# Altium footprint library X.PcbLib: 77 footprints (part 3 of 5)
Each footprint in its own frame and in the unit in brackets; x right, y up, seen from the top. Pads: shape width x height; smd on the part's side, far side on the other; paste and mask are expansions set on the pad; w line width, h text height; cw(c..) or ccw(c..) is an arc to the next point about the centre after c.
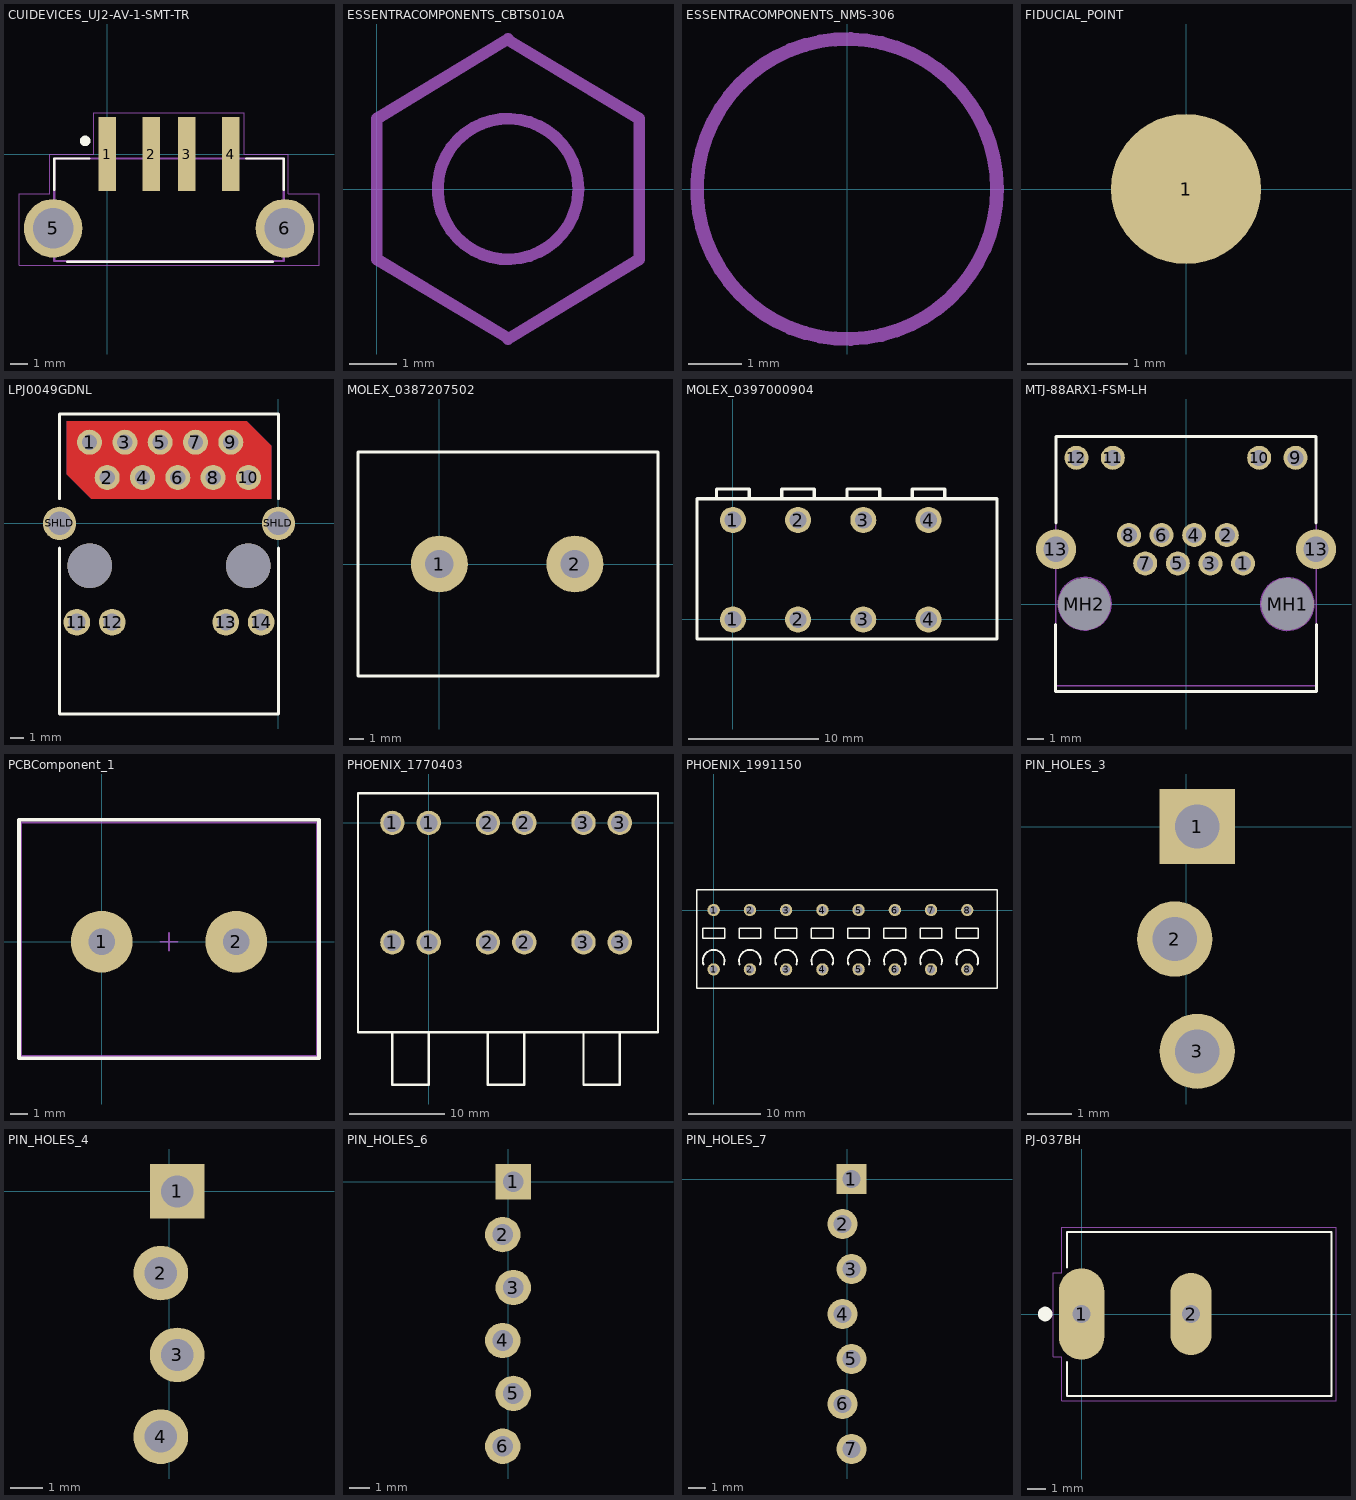
[diagram p2: the footprints below, top view; thin cyan lines are the x and y axes]

## CUIDEVICES_UJ2-AV-1-SMT-TR [mm] "CONN RCPT USB2.0 TYPEA 4POS SMD"
pads (6):
  rect 1x4.2 smd: 1(0,0) 2(2.5,0) 3(4.5,0) 4(7,0)
  round 3.316 hole 2.3: 5(-3.07,-4.2) 6(10.07,-4.2)
Top Overlay:
  circle w0.3: c-1.25,0.75 r0.15
  lines w0.127: -3,-2.032 -3,-0.25 -1.016,-0.25 ; -2.286,-6.096 9.398,-6.096 ; 7.874,-0.25 10,-0.25 10,-2.032
Body:
  circle w0.3: c0,0.75 r0.15
  lines w0.127: -3,-6.05 -3,-0.25 10,-0.25 10,-6.05 -3,-6.05
Mechanical 15:
  lines w0.05: -5,-6.3 -5,-2.25 -3.25,-2.25 -3.25,0 -0.75,0 -0.75,2.35 7.75,2.35 7.75,0 10.25,0 10.25,-2.25 12,-2.25 12,-6.3 -5,-6.3
3D body "CUI_DEVICES_UJ2-AV-1-SMT.step": height 15, standoff -1.93, extent -3.708,-6.845 10.692,1.054

## ESSENTRACOMPONENTS_CBTS010A [mm] "HEX STANDOFF M3 NYLON 5MM"
Body:
  circle w0.254: c2.8,0 r1.5
  lines w0.254: 2.8,-3.2 5.6,-1.5 5.6,0 5.6,1.5 2.8,3.176 ; 2.8,-3.176 0,-1.5 0,0 0,1.5 2.8,3.2
3D body: height 5, standoff 0, extent 0,-3.2 5.6,3.2
3D body: height 0.25, standoff -173.75, extent 0,1.5 0,1.5

## ESSENTRACOMPONENTS_NMS-306 [mm] "MACH SCREW PAN HEAD PHILLIPS M3"
height 2.5
Body:
  circle w0.254: c0,0 r2.8
3D body "NMS-306.stp": height 2.5, standoff -6.4, extent -2.85,-2.85 2.85,2.85

## FIDUCIAL_POINT [mm]
pads (1):
  round 1.5 all layers, no hole paste+3 mask+1: 1(0,0)
Multi-Layer:
  circle w0.254: c0,0 r1.5

## LPJ0049GDNL [mm]
height 13.3
pads (16):
  round 1.8 hole 1.1: 1(-13.59,5.842) 2(-12.32,3.302) 3(-11.05,5.842) 4(-9.78,3.302) 5(-8.51,5.842) 6(-7.24,3.302) 7(-5.97,5.842) 8(-4.7,3.302) 9(-3.43,5.842) 10(-2.16,3.302)
  round 1.92 hole 1.22: 11(-14.505,-7.108) 12(-11.965,-7.108) 13(-3.785,-7.108) 14(-1.245,-7.108)
  round 2.4 hole 1.7: SHLD(-15.75,0) SHLD(0,0)
via -2.16,-3.048 diameter 3.2 hole 3.2
via -13.59,-3.048 diameter 3.2 hole 3.2
Top Layer:
  pour cut-out: -15.24,7.366 -15.24,3.556 -13.462,1.778 -0.508,1.778 -0.508,5.588 -2.286,7.366
Bottom Layer:
  pour cut-out: -15.24,7.366 -15.24,3.556 -13.462,1.778 -0.508,1.778 -0.508,5.588 -2.286,7.366
Top Overlay:
  lines w0.2: -15.748,1.778 -15.75,5.143 -15.75,7.874 -4.954,7.874 0,7.874 0,1.778 ; -10.542,-13.716 -15.75,-13.716 ; 0,-8.319 0,-13.716 ; 0,-1.778 0,-13.716 ; -15.75,-13.716 0,-13.716 ; -15.75,-13.716 -15.748,-1.778 -15.75,-13.716
3D body: height 13, standoff 0, extent -15.75,-13.716 0,7.874

## MOLEX_0387207502 [mm] "CONN BARRIER STRIP 2CIRC 0.375\""
height 19.3
pads (2):
  round 4 hole 2 unplated: 1(0,0) 2(9.525,0)
Top Overlay:
  lines w0.2: -5.715,-7.874 15.367,-7.874 15.367,7.874 -5.715,7.874 -5.715,-7.874
3D body "387207502.stp": height 16.76, standoff -4.83, extent -5.715,-7.874 15.367,7.874

## MOLEX_0397000904 [mm] "TERM BLK 4POS TOP ENTRY 5MM PCB"
pads (8):
  round 2 hole 1.3: 1(0,0) 1(0,7.62) 2(5,0) 2(5,7.62) 3(10,0) 3(10,7.62) 4(15,0) 4(15,7.62)
Top Overlay:
  lines w0.254: -1.25,9.25 -1.25,10 1.25,10 1.25,9.25 ; 3.75,9.25 3.75,10 6.25,10 6.25,9.25 ; 8.75,9.25 8.75,10 11.25,10 11.25,9.25 ; 13.75,9.25 13.75,10 16.25,10 16.25,9.25 ; -2.75,-1.5 20.25,-1.5 20.25,9.25 -2.75,9.25 -2.75,-1.5
3D body: height 14, standoff 7, extent 13.75,8.5 16.25,10
3D body: height 14, standoff 7, extent 8.75,8.5 11.25,10
3D body: height 14, standoff 7, extent 3.75,8.5 6.25,10
3D body: height 14, standoff 7, extent -1.25,8.5 1.25,10
3D body: height 14, standoff 0, extent -2.5,-1.25 20,9

## MTJ-88ARX1-FSM-LH [mm]
pads (16):
  round 1.5 hole 1 mask+0.05: 1(3.57,2.54) 2(2.55,4.32) 3(1.53,2.54) 4(0.51,4.32) 5(-0.51,2.54) 6(-1.53,4.32) 7(-2.55,2.54) 8(-3.57,4.32) 9(6.85,9.15) 10(4.575,9.15) 11(-4.575,9.15) 12(-6.85,9.15)
  round 2.5 hole 1.57 mask+0.05: 13(-8.13,3.43) 13(8.13,3.43)
  round 3.25 hole 3.25 unplated mask+0.05: MH1(6.35,0) MH2(-6.35,0)
Top Overlay:
  lines w0.2: -8.155,-1.27 -8.155,-5.46 8.155,-5.46 8.155,-1.27 ; -8.13,5.08 -8.13,10.475 8.13,10.475 8.13,5.08
Body:
  circle w0.1: c-6.34,0.025 r1.652
  circle w0.1: c6.34,0 r1.652
Mechanical 15:
  lines w0.1: -8.155,-5.1 -8.155,10.475 8.155,10.475 8.155,-5.1 -8.155,-5.1
3D body "c-406549-1-r-3d.stp": height 14.8, standoff -3.92, extent -9.371,-6.223 9.272,10.498

## PCBComponent_1 [mm]
pads (2):
  round 3.5 hole 1.5: 1(0,0) 2(7.62,0)
Top Overlay:
  lines w0.2: -4.69,-6.6 12.31,-6.6 12.31,6.9 -4.69,6.9 -4.69,-6.6
Brd:
  lines w0.1: -4.56,-6.484 12.18,-6.484 12.18,6.75 -4.56,6.75 -4.56,-6.484
Mechanical 15:
  lines w0.1: 3.31,0 4.31,0 ; 3.81,-0.5 3.81,0.5 ; -4.69,-6.6 -4.69,6.9 12.31,6.9 12.31,-6.6 -4.69,-6.6
3D body "User Library-DG25C-1.STEP": height 14.8, standoff -4.79, extent -4.56,-6.484 12.18,6.75

## PHOENIX_1770403 [mm] "TERM BLK 3P SIDE ENTRY 10MM PCB"
pads (12):
  round 2.55 hole 1.85: 1(-3.8,-12.5) 1(-3.8,0) 1(0,-12.5) 1(0,0) 2(6.2,-12.5) 2(6.2,0) 2(10,-12.5) 2(10,0) 3(16.2,-12.5) 3(16.2,0) 3(20,-12.5) 3(20,0)
Top Overlay:
  lines w0.254: -3.8,-21.9 -3.8,-27.4 -2.3,-27.4 0,-27.4 0,-21.9 ; -1,3.1 -3.8,3.1 -7.4,3.1 ; 6.2,-21.9 6.2,-27.4 7.7,-27.4 10,-27.4 10,-21.9 ; 16.2,-21.9 16.2,-27.4 17.7,-27.4 20,-27.4 20,-21.9 ; -7.4,3.1 24,3.1 24,-1.2 24,-21.9 1,-21.9 -7.4,-21.9 -7.4,-12.5 -7.4,-7.9 -7.4,3.1
3D body: height 31, standoff 28, extent 14,-27.4 22.2,-8
3D body: height 31, standoff 28, extent 4,-27.4 12.2,-8
3D body: height 31, standoff 28, extent -6,-27.4 2.2,-8
3D body: height 29, standoff 0, extent -7.4,-21.9 24,3.1

## PHOENIX_1991150 [mm] "TERM BLK 8POS TOP ENTRY 5MM PCB"
pads (16):
  round 1.7 hole 1.1: 1(0,-8.2) 1(0,0) 2(5,-8.2) 2(5,0) 3(10,-8.2) 3(10,0) 4(15,-8.2) 4(15,0) 5(20,-8.2) 5(20,0) 6(25,-8.2) 6(25,0) 7(30,-8.2) 7(30,0) 8(35,-8.2) 8(35,0)
Top Overlay:
  lines w0.2: -2.3,-10.8 39.1,-10.8 39.1,2.8 -2.3,2.8 -2.3,-10.8 ; -1.5,-3.9 1.5,-3.9 1.5,-2.5 -1.5,-2.5 -1.5,-3.9 ; 3.5,-3.9 6.5,-3.9 6.5,-2.5 3.5,-2.5 3.5,-3.9 ; 8.5,-3.9 11.5,-3.9 11.5,-2.5 8.5,-2.5 8.5,-3.9 ; 13.5,-3.9 16.5,-3.9 16.5,-2.5 13.5,-2.5 13.5,-3.9 ; 18.5,-3.9 21.5,-3.9 21.5,-2.5 18.5,-2.5 18.5,-3.9 ; 23.5,-3.9 26.5,-3.9 26.5,-2.5 23.5,-2.5 23.5,-3.9 ; 28.5,-3.9 31.5,-3.9 31.5,-2.5 28.5,-2.5 28.5,-3.9 ; 33.5,-3.9 36.5,-3.9 36.5,-2.5 33.5,-2.5 33.5,-3.9
  lines w0.254: -1.413,-7.505 cw(c0,-7) 1.413,-7.505 ; 3.587,-7.505 cw(c5,-7) 6.413,-7.505 ; 8.587,-7.505 cw(c10,-7) 11.413,-7.505 ; 13.587,-7.505 cw(c15,-7) 16.413,-7.505 ; 18.587,-7.505 cw(c20,-7) 21.413,-7.505 ; 23.587,-7.505 cw(c25,-7) 26.413,-7.505 ; 28.587,-7.505 cw(c30,-7) 31.413,-7.505 ; 33.587,-7.505 cw(c35,-7) 36.413,-7.505
3D body: height 14.4, standoff 2, extent -1.5,-10.8 1.5,-8.2
3D body: height 14.4, standoff 2, extent -1.5,-5.5 1.5,-3.9
3D body: height 14.4, standoff 2, extent -1.5,-2.5 1.5,2.8
3D body: height 14.4, standoff 2, extent 1.5,-10.8 2.7,2.8
3D body: height 14.4, standoff 2, extent -2.3,-10.8 -1.5,2.8
3D body: height 14.4, standoff 2, extent 37.7,-10.75 39.1,2.75
3D body: height 14.4, standoff 2, extent 3.5,-10.8 6.5,-8.2
3D body: height 14.4, standoff 2, extent 3.5,-5.5 6.5,-3.9
3D body: height 14.4, standoff 2, extent 3.5,-2.5 6.5,2.8
3D body: height 14.4, standoff 2, extent 6.5,-10.8 7.7,2.8
3D body: height 14.4, standoff 2, extent 2.7,-10.8 3.5,2.8
3D body: height 14.4, standoff 2, extent 8.5,-10.8 11.5,-8.2
3D body: height 14.4, standoff 2, extent 8.5,-5.5 11.5,-3.9
3D body: height 14.4, standoff 2, extent 8.5,-2.5 11.5,2.8
3D body: height 14.4, standoff 2, extent 11.5,-10.8 12.7,2.8
3D body: height 14.4, standoff 2, extent 7.7,-10.8 8.5,2.8
3D body: height 14.4, standoff 2, extent 13.5,-10.8 16.5,-8.2
3D body: height 14.4, standoff 2, extent 13.5,-5.5 16.5,-3.9
3D body: height 14.4, standoff 2, extent 13.5,-2.5 16.5,2.8
3D body: height 14.4, standoff 2, extent 16.5,-10.8 17.7,2.8
3D body: height 14.4, standoff 2, extent 12.7,-10.8 13.5,2.8
3D body: height 14.4, standoff 2, extent 18.5,-10.8 21.5,-8.2
3D body: height 14.4, standoff 2, extent 18.5,-5.5 21.5,-3.9
3D body: height 14.4, standoff 2, extent 18.5,-2.5 21.5,2.8
3D body: height 14.4, standoff 2, extent 21.5,-10.8 22.7,2.8
3D body: height 14.4, standoff 2, extent 17.7,-10.8 18.5,2.8
3D body: height 14.4, standoff 2, extent 23.5,-10.8 26.5,-8.2
3D body: height 14.4, standoff 2, extent 23.5,-5.5 26.5,-3.9
3D body: height 14.4, standoff 2, extent 23.5,-2.5 26.5,2.8
3D body: height 14.4, standoff 2, extent 26.5,-10.8 27.7,2.8
3D body: height 14.4, standoff 2, extent 22.7,-10.8 23.5,2.8
3D body: height 14.4, standoff 2, extent 28.5,-10.8 31.5,-8.2
3D body: height 14.4, standoff 2, extent 28.5,-5.5 31.5,-3.9
3D body: height 14.4, standoff 2, extent 28.5,-2.5 31.5,2.8
3D body: height 14.4, standoff 2, extent 31.5,-10.8 32.7,2.8
3D body: height 14.4, standoff 2, extent 27.7,-10.8 28.5,2.8
3D body: height 14.4, standoff 2, extent 33.5,-10.8 36.5,-8.2
3D body: height 14.4, standoff 2, extent 33.5,-5.5 36.5,-3.9
3D body: height 14.4, standoff 2, extent 33.5,-2.5 36.5,2.8
3D body: height 14.4, standoff 2, extent 36.5,-10.8 37.7,2.8
3D body: height 14.4, standoff 2, extent 32.7,-10.8 33.5,2.8

## PIN_HOLES_3 [mm]
pads (3):
  rect 1.7x1.7 hole 1: 1(0.254,0)
  round 1.7 hole 1: 2(-0.254,-2.54) 3(0.254,-5.08)

## PIN_HOLES_4 [mm]
pads (4):
  rect 1.7x1.7 hole 1: 1(0.254,0)
  round 1.7 hole 1: 2(-0.254,-2.54) 3(0.254,-5.08) 4(-0.254,-7.62)

## PIN_HOLES_6 [mm]
pads (6):
  rect 1.7x1.7 hole 1: 1(0.254,0)
  round 1.7 hole 1: 2(-0.254,-2.54) 3(0.254,-5.08) 4(-0.254,-7.62) 5(0.254,-10.16) 6(-0.254,-12.7)

## PIN_HOLES_7 [mm]
pads (7):
  rect 1.7x1.7 hole 1: 1(0.254,0)
  round 1.7 hole 1: 2(-0.254,-2.54) 3(0.254,-5.08) 4(-0.254,-7.62) 5(0.254,-10.16) 6(-0.254,-12.7) 7(0.254,-15.24)

## PJ-037BH [mm]
pads (2):
  oval 2.5x5 hole 1: 1(0,0)
  oval 2.25x4.5 hole 1: 2(6,0)
Top Overlay:
  circle w0.4: c-2,0 r0.2
  lines w0.127: -0.8,-2.65 -0.8,-4.5 13.7,-4.5 13.7,4.5 -0.8,4.5 -0.8,2.55
Brd:
  lines w0: -0.5,-1.75 -0.5,1.75 0.5,1.75 0.5,-1.75 -0.5,-1.75 ; 5.5,-1.5 5.5,1.5 6.5,1.5 6.5,-1.5 5.5,-1.5
Mechanical 15:
  lines w0.05: -1.55,-2.35 -1.1,-2.35 -1.1,-4.75 13.95,-4.75 13.95,4.75 -1.1,4.75 -1.1,2.25 -1.55,2.25 -1.55,-2.35
3D body: height 11, standoff 0, extent -0.8,-4.5 13.7,4.5